# Altium schematic symbol library EXV476M016A9GAA.SchLib: 2 symbols
Pins are listed as number, name and electrical type; pins without a type are passive.

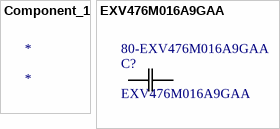
[diagram p0: symbols Component_1 to EXV476M016A9GAA]

## Component_1
designator *

## EXV476M016A9GAA
designator C?  Supplier Part Number 1: 80-EXV476M016A9GAA
No Description Available; Mfr_Name: Kemet; Type: DEV; Copyright: Copyright (C) 2021 Ultra Librarian. All rights reserved.; Manufacturer_Part_Number: EXV476M016A9GAA; RefDes: RefDes; Supplier 1: Mouser
footprint EXV-9M_KEM
pins: 1 11, 2 12